# Altium schematic symbol library CC LED Drivers.SchLib: 4 symbols
Pins are listed as number, name and electrical type; pins without a type are passive.

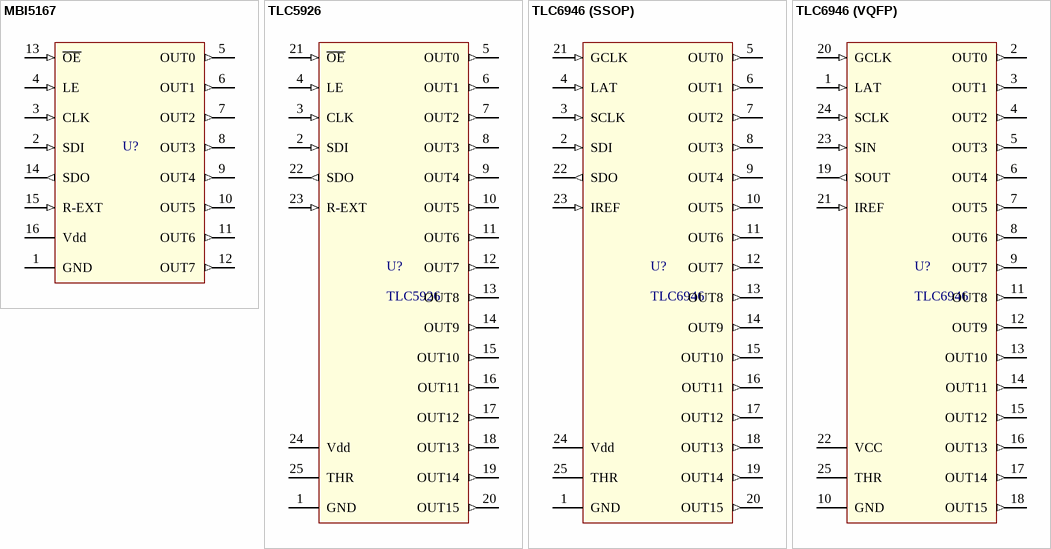
[diagram p0: symbols MBI5167 to TLC6946 (VQFP)]

## MBI5167
designator U?  (value not drawn)
8-Channel Constant Current LED Sink Driver
footprint SSOP16-150-0.64
pins: 1 GND (power) "Power ground pin.", 2 SDI (in) "Serial data input  pin.", 3 CLK (in) "Serial clock input pin.", 4 LE (in) "Data strobe input pin.", 5 OUT0 (out) "Constant-current output pin.", 6 OUT1 (out) "Constant-current output pin.", 7 OUT2 (out) "Constant-current output pin.", 8 OUT3 (out) "Constant-current output pin.", 9 OUT4 (out) "Constant-current output pin.", 10 OUT5 (out) "Constant-current output pin.", 11 OUT6 (out) "Constant-current output pin.", 12 OUT7 (out) "Constant-current output pin.", 13 ~{OE} (in) "Output enable pin.", 14 SDO (out) "Serial data output pin.", 15 R-EXT (in) "Setup led current pin.", 16 Vdd (power) "Supply voltage pin."

## TLC5926
designator U?
Manufacture: Texas Instruments; Part number: TLC5926IPWPR
footprint TSSOP24 PowerPAD (TSOP, 24-Leads, Body 7,80x4,40mm, Pitch 0,65mm, Thermal Pad 5,16x2,40mm, IPC Medium Density)
pins: 1 GND (power) "Power ground pin.", 2 SDI (in) "Serial data input  pin.", 3 CLK (in) "Serial clock input pin.", 4 LE (in) "Data strobe input pin.", 5 OUT0 (out) "Constant-current output pin.", 6 OUT1 (out) "Constant-current output pin.", 7 OUT2 (out) "Constant-current output pin.", 8 OUT3 (out) "Constant-current output pin.", 9 OUT4 (out) "Constant-current output pin.", 10 OUT5 (out) "Constant-current output pin.", 11 OUT6 (out) "Constant-current output pin.", 12 OUT7 (out) "Constant-current output pin.", 13 OUT8 (out) "Constant-current output pin.", 14 OUT9 (out) "Constant-current output pin.", 15 OUT10 (out) "Constant-current output pin.", 16 OUT11 (out) "Constant-current output pin.", 17 OUT12 (out) "Constant-current output pin.", 18 OUT13 (out) "Constant-current output pin.", 19 OUT14 (out) "Constant-current output pin.", 20 OUT15 (out) "Constant-current output pin.", 21 ~{OE} (in) "Output enable pin.", 22 SDO (out) "Serial data output pin.", 23 R-EXT (in) "Setup led current pin.", 24 Vdd (power) "Supply voltage pin.", 25 THR (power) "Thermal pad."

## TLC6946 (SSOP)
designator U?, comment TLC6946
TLC694x 16-Channel 32-, 48-Multiplexing 16-Bit ES-PWM Constant-Current LED Driver.; Manufacture: Texas Instruments; Part number: TLC5926IPWPR
footprint TSSOP24 PowerPAD (TSOP, 24-Leads, Body 7,80x4,40mm, Pitch 0,65mm, Thermal Pad 5,16x2,40mm, IPC Medium Density)
pins: 1 GND (power) "Power ground pin.", 2 SDI (in) "Serial data input  pin.", 3 SCLK (in) "Serial clock input pin.", 4 LAT (in) "Data latch pin. The falling edge of LAT latches the data from the common shift register", 5 OUT0 (out) "Constant-current output pin.", 6 OUT1 (out) "Constant-current output pin.", 7 OUT2 (out) "Constant-current output pin.", 8 OUT3 (out) "Constant-current output pin.", 9 OUT4 (out) "Constant-current output pin.", 10 OUT5 (out) "Constant-current output pin.", 11 OUT6 (out) "Constant-current output pin.", 12 OUT7 (out) "Constant-current output pin.", 13 OUT8 (out) "Constant-current output pin.", 14 OUT9 (out) "Constant-current output pin.", 15 OUT10 (out) "Constant-current output pin.", 16 OUT11 (out) "Constant-current output pin.", 17 OUT12 (out) "Constant-current output pin.", 18 OUT13 (out) "Constant-current output pin.", 19 OUT14 (out) "Constant-current output pin.", 20 OUT15 (out) "Constant-current output pin.", 21 GCLK (in) "Grayscale (GS) pulse-width modulation (PWM) reference-clock-signal input pin. In the", 22 SDO (out) "Serial data output pin.", 23 IREF (in) "Setup led current pin.", 24 Vdd (power) "Supply voltage pin.", 25 THR (power) "Thermal pad."

## TLC6946 (VQFP)
designator U?, comment TLC6946
TLC694x 16-Channel 32-, 48-Multiplexing 16-Bit ES-PWM Constant-Current LED Driver.; Manufacture: Texas Instruments; Part number: TLC5926IPWPR
footprint VQFN24 (RGE0024H, TLC6946)
pins: 1 LAT (in) "Data latch pin. The falling edge of LAT latches the data from the common shift register", 2 OUT0 (out) "Constant-current output pin.", 3 OUT1 (out) "Constant-current output pin.", 4 OUT2 (out) "Constant-current output pin.", 5 OUT3 (out) "Constant-current output pin.", 6 OUT4 (out) "Constant-current output pin.", 7 OUT5 (out) "Constant-current output pin.", 8 OUT6 (out) "Constant-current output pin.", 9 OUT7 (out) "Constant-current output pin.", 10 GND (power) "Power ground pin.", 11 OUT8 (out) "Constant-current output pin.", 12 OUT9 (out) "Constant-current output pin.", 13 OUT10 (out) "Constant-current output pin.", 14 OUT11 (out) "Constant-current output pin.", 15 OUT12 (out) "Constant-current output pin.", 16 OUT13 (out) "Constant-current output pin.", 17 OUT14 (out) "Constant-current output pin.", 18 OUT15 (out) "Constant-current output pin.", 19 SOUT (out) "Serial data output pin.", 20 GCLK (in) "Grayscale (GS) pulse-width modulation (PWM) reference-clock-signal input pin. In the", 21 IREF (in) "Setup led current pin.", 22 VCC (power) "Supply voltage pin.", 23 SIN (in) "Serial data input  pin.", 24 SCLK (in) "Serial clock input pin.", 25 THR (power) "Thermal pad."